# Altium footprint library SULLINS_GBC12SABN-M30.PcbLib: 1 footprints
Each footprint in its own frame and in the unit in brackets; x right, y up, seen from the top. Pads: shape width x height; smd on the part's side, far side on the other; paste and mask are expansions set on the pad; w line width, h text height; cw(c..) or ccw(c..) is an arc to the next point about the centre after c.
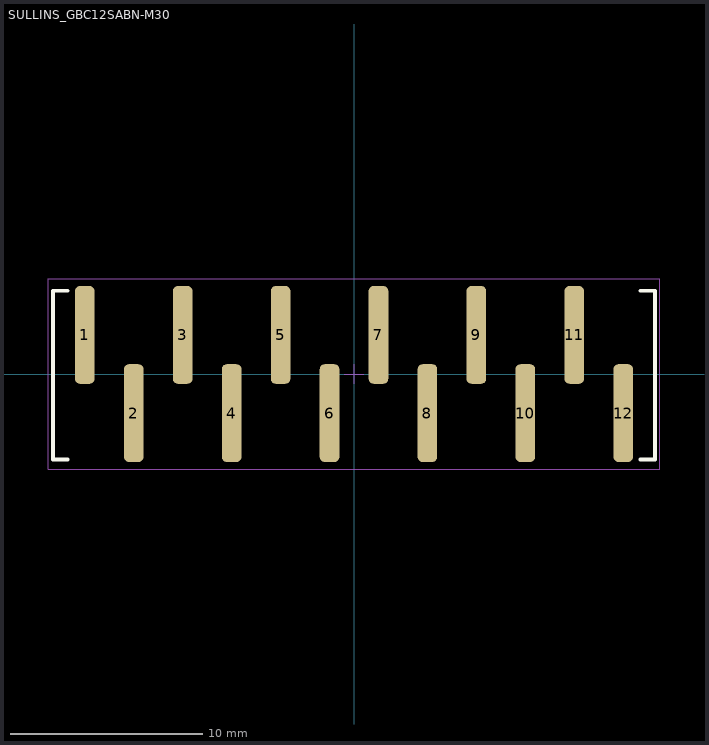
[diagram p0: the footprint, top view; thin cyan lines are the x and y axes]

## SULLINS_GBC12SABN-M30 [mil]
pads (12):
  rrect50% 40x200 smd: 1(-550,80) 2(-450,-80) 3(-350,80) 4(-250,-80) 5(-150,80) 6(-50,-80) 7(50,80) 8(150,-80) 9(250,80) 10(350,-80) 11(450,80) 12(550,-80)
Top Overlay:
  lines w7.87: -585,-175 -615,-175 -615,170 -585,170 ; 585,-175 615,-175 615,170 585,170
Mechanical 15:
  lines w1.97: -20,0 20,0 ; 0,-20 0,20 ; -625,-195 -625,195 625,195 625,-195 -625,-195
3D body "_ _C12SABN-M30.step": height 390, standoff 0.5, extent -600,-158 600,162